# Altium schematic symbol library CONMHF1-SMD-T.SchLib: 1 symbol
Pins are listed as number, name and electrical type; pins without a type are passive.

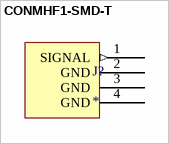
[diagram p0: symbol CONMHF1-SMD-T]

## CONMHF1-SMD-T
designator J?
pins: 1 SIGNAL (out), 2 GND (power), 3 GND (power), 4 GND (power)